# EAGLE library part STLM75DS2F (library EW_sensors)
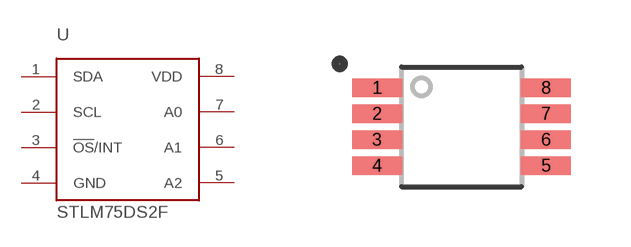
[diagram p0: symbol with the pads of SOP65P490X110-8N; footprint SOP65P490X110-8N]

Designator prefix U

## STLM75DS2F  [SOP65P490X110-8N]
1  SDA
2  SCL
3  !OS!/INT
4  GND
5  A2
6  A1
7  A0
8  VDD

## Footprint SOP65P490X110-8N (pad centres in mm)
smd 1.25 x 0.46: 1 -2.11,0.975; 2 -2.11,0.325; 3 -2.11,-0.325; 4 -2.11,-0.975; 5 2.11,-0.975; 6 2.11,-0.325; 7 2.11,0.325; 8 2.11,0.975